# EAGLE library part MS5803 (library daqcs)
MS5803-05BA Miniature Altimeter and Diving Module SPECIFICATIONS High resolution module, 30cm Fast conversion down to 1 ms Low power, 1 μA (standby < 0.15 μA) Integrated digital pressure sensor (24 bit ΔΣ ADC) Supply voltage 1.8 to 3.6 V Operating range: 0 to 5 bar, -40 to +85 °C I2C and SPI interface (Mode 0,3) No external components (Internal oscillator) Excellent long term stability Hermetically sealable for outdoor devices
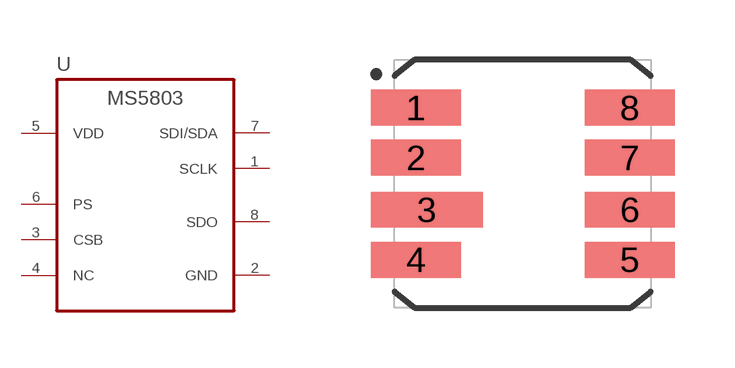
[diagram p12: symbol with the pads of SMD125130P225X090-8N; footprint SMD125130P225X090-8N]

Designator prefix U

## MS5803-05BA_8SMD (DATASHEET: HW/docs/projects/raspi_zero_power_sensor_hat/datasheets/sensors/ENG_DS_MS5803-05BA_B.pdf; INTERFACE: I2C,SPI; MANUFACTURER: TE Connectivity; MANUFACTURER_PN: MS580305BA01-00; OUTPUT_BITS: 24b; PRESSURE_TYPE: Absolute; VALUE: MS580305BA01; VENDOR: Digi-key; VENDOR_PN: 223-1625-5-ND)  [SMD125130P225X090-8N]
1  SCLK  in
2  GND  pwr
3  CSB  out
4  NC  nc
5  VDD  pwr
6  PS  in
7  SDI/SDA
8  SDO  out

## Footprint SMD125130P225X090-8N (pad centres in mm)
smd 2.25 x 0.9: 1 -2.675,1.9; 2 -2.675,0.65; 4 -2.675,-1.9; 5 2.675,-1.9; 6 2.675,-0.65; 7 2.675,0.65; 8 2.675,1.9
smd 2.8 x 0.9: 3 -2.4,-0.65